# EAGLE library part MS560702BA03-50 (library MS560702BA03-50)
Dimensions: Dimensions 3 x 3 x 0.9 MM | Dimensions .11 x .11 x 0.03 INCH | Electrical Characteristics: Board Level Pressure Sensor Supply Voltage 1.5 3.6 V | Operation/Application: Resolution .016 | Output/Span 24 bit ADC | Board Level Pressure Sensor Accuracy +/-4mbar | Other: Sensor Options No Option | Packaging Features: Board Level Pressure Sensor Package Surface Mountable | Product Type Features: Board Level Pressure Sensor Style Absolute | Board Level Pressure Sensor Type Digital Pressure and Altim Source: Datasheet <https://www.te.com/commerce/DocumentDelivery/DDEController?Action=srchrtrv&DocNm=MS5607-02BA03&DocType=Data Sheet&DocLang=English&PartCntxt=MS560702BA03-50&DocFormat=pdf>
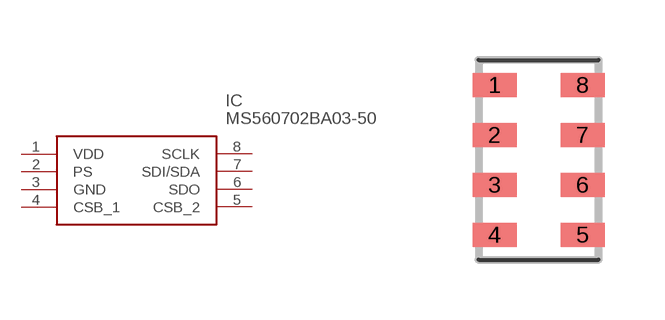
[diagram p0: symbol with the pads of MS5607-02BA03; footprint MS5607-02BA03]

Designator prefix IC

## MS560702BA03-50 (Description: Dimensions: Dimensions 3 x 3 x 0.9 MM | Dimensions .11 x .11 x 0.03 INCH | Electrical Characteristics: Board Level Pressure Sensor Supply Voltage 1.5 3.6 V | Operation/Application: Resolution .016 | Output/Span 24 bit ADC | Board Level Pressure Sensor Accuracy +/-4mbar | Other: Sensor Options No Option | Packaging Features: Board Level Pressure Sensor Package Surface Mountable | Product Type Features: Board Level Pressure Sensor Style Absolute | Board Level Pressure Sensor Type Digital Pressure and Altim; Height: mm; Manufacturer_Name: TE Connectivity; Manufacturer_Part_Number: MS560702BA03-50; Mouser_Part_Number: 824-MS560702BA03-50; Mouser_Price-Stock: https://www.mouser.co.uk/ProductDetail/Measurement-Specialties/MS560702BA03-50?qs=urSpXqmdEVImCZG1H%252BT8ng%3D%3D)  [MS5607-02BA03]
1  VDD  pwr
2  PS  in
3  GND  pwr
4  CSB_1  in
5  CSB_2  in
6  SDO  out
7  SDI/SDA
8  SCLK  in

## Footprint MS5607-02BA03 (pad centres in mm)
MS5607-02BA03
smd 1.1 x 0.6: 1 -1.1,1.875; 2 -1.1,0.625; 3 -1.1,-0.625; 4 -1.1,-1.875; 5 1.1,-1.875; 6 1.1,-0.625; 7 1.1,0.625; 8 1.1,1.875